# Altium schematic symbol library jlcpcb_2025_04_ferrites_extended_1206.schlib: 308 symbols (part 2 of 6)
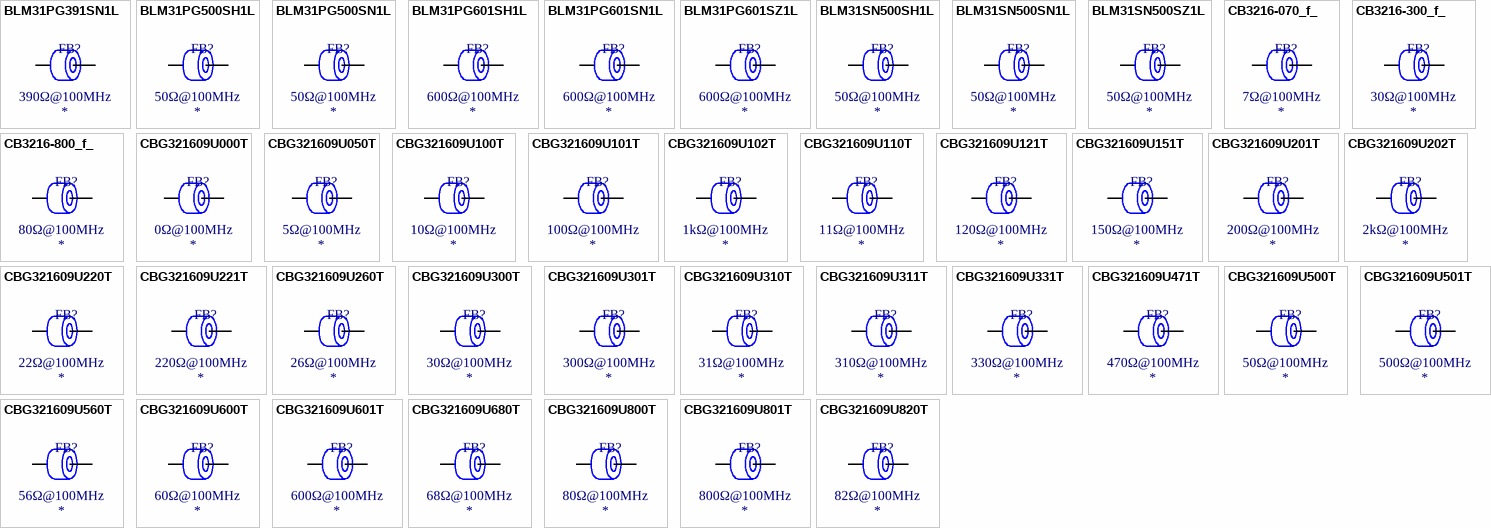
[diagram p8: symbols BLM31PG391SN1L to CBG321609U820T]

## CBG321609U102T
designator FB?  Impedance @ Frequency: 1kΩ@100MHz
Ferrite, 1kΩ@100MHz, ±25%, 350mΩ, 400mA, SMD 1206; Manufacturer: FH(Guangdong Fenghua Advanced Tech); Manufacturer Part Number: CBG321609U102T; Package Size: 1206; JLCPCB Basic Part: No; JLCPCB Part Number: C361667; Supplier 1: LCSC; Category: Ferrite Beads; Supplier Part Number 1: C361667; Tolerance: ±25%; Rated Current: 400mA; DC Resistance: 350mΩ; RoHS: Yes; ComponentLink1Description: Datasheet; ComponentLink1URL: https://wmsc.lcsc.com/wmsc/upload/file/pdf/v2/lcsc/1912111437_FH--Guangdong-Fenghua-Advanced-Tech-CBG321609U102T_C361667.pdf; ComponentLink2Description: JLCPCB Part URL; ComponentLink2URL: https://jlcpcb.com/partdetail/C361667; ComponentLink3Description: LCSC Part URL; ComponentLink3URL: https://lcsc.com/product-detail/Ferrite-Beads_FH-Guangdong-Fenghua-Advanced-Tech-FH-Guangdong-Fenghua-Advanced-Tech-CBG321609U102T_C361667.html
footprint FB-1206 (1206 (3216M) Ferrite)
pins: 1, 2

## CBG321609U110T
designator FB?  Impedance @ Frequency: 11Ω@100MHz
Ferrite, 11Ω@100MHz, 100mΩ, 1A, SMD 1206; Manufacturer: FH(Guangdong Fenghua Advanced Tech); Manufacturer Part Number: CBG321609U110T; Package Size: 1206; JLCPCB Basic Part: No; JLCPCB Part Number: C89361; Supplier 1: LCSC; Category: Ferrite Beads; Supplier Part Number 1: C89361; Rated Current: 1A; DC Resistance: 100mΩ; RoHS: Yes; ComponentLink1Description: Datasheet; ComponentLink1URL: https://wmsc.lcsc.com/wmsc/upload/file/pdf/v2/lcsc/2304140030_FH--Guangdong-Fenghua-Advanced-Tech-CBG321609U110T_C89361.pdf; ComponentLink2Description: JLCPCB Part URL; ComponentLink2URL: https://jlcpcb.com/partdetail/C89361; ComponentLink3Description: LCSC Part URL; ComponentLink3URL: https://lcsc.com/product-detail/Ferrite-Beads_FH-Guangdong-Fenghua-Advanced-Tech-FH-Guangdong-Fenghua-Advanced-Tech-CBG321609U110T_C89361.html
pins: 1, 2

## CBG321609U121T
designator FB?  Impedance @ Frequency: 120Ω@100MHz
Ferrite, 120Ω@100MHz, ±25%, 150mΩ, 1A, SMD 1206; Manufacturer: FH(Guangdong Fenghua Advanced Tech); Manufacturer Part Number: CBG321609U121T; Package Size: 1206; JLCPCB Basic Part: No; JLCPCB Part Number: C39279; Supplier 1: LCSC; Category: Ferrite Beads; Supplier Part Number 1: C39279; Tolerance: ±25%; Rated Current: 1A; DC Resistance: 150mΩ; RoHS: Yes; ComponentLink1Description: Datasheet; ComponentLink1URL: https://wmsc.lcsc.com/wmsc/upload/file/pdf/v2/lcsc/2304140030_FH--Guangdong-Fenghua-Advanced-Tech-CBG321609U121T_C39279.pdf; ComponentLink2Description: JLCPCB Part URL; ComponentLink2URL: https://jlcpcb.com/partdetail/C39279; ComponentLink3Description: LCSC Part URL; ComponentLink3URL: https://lcsc.com/product-detail/Ferrite-Beads_FH-Guangdong-Fenghua-Advanced-Tech-FH-Guangdong-Fenghua-Advanced-Tech-CBG321609U121T_C39279.html
footprint FB-1206 (1206 (3216M) Ferrite)
pins: 1, 2

## CBG321609U151T
designator FB?  Impedance @ Frequency: 150Ω@100MHz
Ferrite, 150Ω@100MHz, ±25%, 200mΩ, 800mA, SMD 1206; Manufacturer: FH(Guangdong Fenghua Advanced Tech); Manufacturer Part Number: CBG321609U151T; Package Size: 1206; JLCPCB Basic Part: No; JLCPCB Part Number: C74484; Supplier 1: LCSC; Category: Ferrite Beads; Supplier Part Number 1: C74484; Tolerance: ±25%; Rated Current: 800mA; DC Resistance: 200mΩ; RoHS: Yes; ComponentLink1Description: Datasheet; ComponentLink1URL: https://wmsc.lcsc.com/wmsc/upload/file/pdf/v2/lcsc/2304140030_FH--Guangdong-Fenghua-Advanced-Tech-CBG321609U151T_C74484.pdf; ComponentLink2Description: JLCPCB Part URL; ComponentLink2URL: https://jlcpcb.com/partdetail/C74484; ComponentLink3Description: LCSC Part URL; ComponentLink3URL: https://lcsc.com/product-detail/Ferrite-Beads_FH-Guangdong-Fenghua-Advanced-Tech-FH-Guangdong-Fenghua-Advanced-Tech-CBG321609U151T_C74484.html
footprint FB-1206 (1206 (3216M) Ferrite)
pins: 1, 2

## CBG321609U201T
designator FB?  Impedance @ Frequency: 200Ω@100MHz
Ferrite, 200Ω@100MHz, ±25%, SMD 1206; Manufacturer: FH(Guangdong Fenghua Advanced Tech); Manufacturer Part Number: CBG321609U201T; Package Size: 1206; JLCPCB Basic Part: No; JLCPCB Part Number: C139152; Supplier 1: LCSC; Category: Ferrite Beads; Supplier Part Number 1: C139152; Tolerance: ±25%; RoHS: Yes; ComponentLink1Description: Datasheet; ComponentLink1URL: https://wmsc.lcsc.com/wmsc/upload/file/pdf/v2/lcsc/2304140030_FH--Guangdong-Fenghua-Advanced-Tech-CBG321609U201T_C139152.pdf; ComponentLink2Description: JLCPCB Part URL; ComponentLink2URL: https://jlcpcb.com/partdetail/C139152; ComponentLink3Description: LCSC Part URL; ComponentLink3URL: https://lcsc.com/product-detail/Ferrite-Beads_FH-Guangdong-Fenghua-Advanced-Tech-FH-Guangdong-Fenghua-Advanced-Tech-CBG321609U201T_C139152.html
pins: 1, 2

## CBG321609U202T
designator FB?  Impedance @ Frequency: 2kΩ@100MHz
Ferrite, 2kΩ@100MHz, ±25%, 1Ω, 50mA, SMD 1206; Manufacturer: FH(Guangdong Fenghua Advanced Tech); Manufacturer Part Number: CBG321609U202T; Package Size: 1206; JLCPCB Basic Part: No; JLCPCB Part Number: C316453; Supplier 1: LCSC; Category: Ferrite Beads; Supplier Part Number 1: C316453; Tolerance: ±25%; Rated Current: 50mA; DC Resistance: 1Ω; RoHS: Yes; ComponentLink1Description: Datasheet; ComponentLink1URL: https://wmsc.lcsc.com/wmsc/upload/file/pdf/v2/lcsc/1811011940_FH--Guangdong-Fenghua-Advanced-Tech-CBG321609U202T_C316453.pdf; ComponentLink2Description: JLCPCB Part URL; ComponentLink2URL: https://jlcpcb.com/partdetail/C316453; ComponentLink3Description: LCSC Part URL; ComponentLink3URL: https://lcsc.com/product-detail/Ferrite-Beads_FH-Guangdong-Fenghua-Advanced-Tech-FH-Guangdong-Fenghua-Advanced-Tech-CBG321609U202T_C316453.html
footprint FB-1206 (1206 (3216M) Ferrite)
pins: 1, 2

## CBG321609U220T
designator FB?  Impedance @ Frequency: 22Ω@100MHz
Ferrite, 22Ω@100MHz, ±25%, SMD 1206; Manufacturer: FH(Guangdong Fenghua Advanced Tech); Manufacturer Part Number: CBG321609U220T; Package Size: 1206; JLCPCB Basic Part: No; JLCPCB Part Number: C74483; Supplier 1: LCSC; Category: Ferrite Beads; Supplier Part Number 1: C74483; Tolerance: ±25%; RoHS: Yes; ComponentLink1Description: Datasheet; ComponentLink1URL: https://wmsc.lcsc.com/wmsc/upload/file/pdf/v2/lcsc/2304140030_FH--Guangdong-Fenghua-Advanced-Tech-CBG321609U220T_C74483.pdf; ComponentLink2Description: JLCPCB Part URL; ComponentLink2URL: https://jlcpcb.com/partdetail/C74483; ComponentLink3Description: LCSC Part URL; ComponentLink3URL: https://lcsc.com/product-detail/Ferrite-Beads_FH-Guangdong-Fenghua-Advanced-Tech-FH-Guangdong-Fenghua-Advanced-Tech-CBG321609U220T_C74483.html
pins: 1, 2

## CBG321609U221T
designator FB?  Impedance @ Frequency: 220Ω@100MHz
Ferrite, 220Ω@100MHz, ±25%, 200mΩ, 800mA, SMD 1206; Manufacturer: FH(Guangdong Fenghua Advanced Tech); Manufacturer Part Number: CBG321609U221T; Package Size: 1206; JLCPCB Basic Part: No; JLCPCB Part Number: C124098; Supplier 1: LCSC; Category: Ferrite Beads; Supplier Part Number 1: C124098; Tolerance: ±25%; Rated Current: 800mA; DC Resistance: 200mΩ; RoHS: Yes; ComponentLink1Description: Datasheet; ComponentLink1URL: https://wmsc.lcsc.com/wmsc/upload/file/pdf/v2/lcsc/2304140030_FH--Guangdong-Fenghua-Advanced-Tech-CBG321609U221T_C124098.pdf; ComponentLink2Description: JLCPCB Part URL; ComponentLink2URL: https://jlcpcb.com/partdetail/C124098; ComponentLink3Description: LCSC Part URL; ComponentLink3URL: https://lcsc.com/product-detail/Ferrite-Beads_FH-Guangdong-Fenghua-Advanced-Tech-FH-Guangdong-Fenghua-Advanced-Tech-CBG321609U221T_C124098.html
footprint FB-1206 (1206 (3216M) Ferrite)
pins: 1, 2

## CBG321609U260T
designator FB?  Impedance @ Frequency: 26Ω@100MHz
Ferrite, 26Ω@100MHz, ±25%, 100mΩ, 1A, SMD 1206; Manufacturer: FH(Guangdong Fenghua Advanced Tech); Manufacturer Part Number: CBG321609U260T; Package Size: 1206; JLCPCB Basic Part: No; JLCPCB Part Number: C668240; Supplier 1: LCSC; Category: Ferrite Beads; Supplier Part Number 1: C668240; Tolerance: ±25%; Rated Current: 1A; DC Resistance: 100mΩ; RoHS: Yes; ComponentLink1Description: Datasheet; ComponentLink1URL: https://wmsc.lcsc.com/wmsc/upload/file/pdf/v2/lcsc/2304140030_FH--Guangdong-Fenghua-Advanced-Tech-CBG321609U260T_C668240.pdf; ComponentLink2Description: JLCPCB Part URL; ComponentLink2URL: https://jlcpcb.com/partdetail/C668240; ComponentLink3Description: LCSC Part URL; ComponentLink3URL: https://lcsc.com/product-detail/Ferrite-Beads_FH-Guangdong-Fenghua-Advanced-Tech-FH-Guangdong-Fenghua-Advanced-Tech-CBG321609U260T_C668240.html
footprint FB-1206 (1206 (3216M) Ferrite)
pins: 1, 2

## CBG321609U300T
designator FB?  Impedance @ Frequency: 30Ω@100MHz
Ferrite, 30Ω@100MHz, ±25%, SMD 1206; Manufacturer: FH(Guangdong Fenghua Advanced Tech); Manufacturer Part Number: CBG321609U300T; Package Size: 1206; JLCPCB Basic Part: No; JLCPCB Part Number: C139153; Supplier 1: LCSC; Category: Ferrite Beads; Supplier Part Number 1: C139153; Tolerance: ±25%; RoHS: Yes; ComponentLink1Description: Datasheet; ComponentLink1URL: https://wmsc.lcsc.com/wmsc/upload/file/pdf/v2/lcsc/2304140030_FH--Guangdong-Fenghua-Advanced-Tech-CBG321609U300T_C139153.pdf; ComponentLink2Description: JLCPCB Part URL; ComponentLink2URL: https://jlcpcb.com/partdetail/C139153; ComponentLink3Description: LCSC Part URL; ComponentLink3URL: https://lcsc.com/product-detail/Ferrite-Beads_FH-Guangdong-Fenghua-Advanced-Tech-FH-Guangdong-Fenghua-Advanced-Tech-CBG321609U300T_C139153.html
pins: 1, 2

## CBG321609U301T
designator FB?  Impedance @ Frequency: 300Ω@100MHz
Ferrite, 300Ω@100MHz, ±25%, 200mΩ, 800mA, SMD 1206; Manufacturer: FH(Guangdong Fenghua Advanced Tech); Manufacturer Part Number: CBG321609U301T; Package Size: 1206; JLCPCB Basic Part: No; JLCPCB Part Number: C139154; Supplier 1: LCSC; Category: Ferrite Beads; Supplier Part Number 1: C139154; Tolerance: ±25%; Rated Current: 800mA; DC Resistance: 200mΩ; RoHS: Yes; ComponentLink1Description: Datasheet; ComponentLink1URL: https://wmsc.lcsc.com/wmsc/upload/file/pdf/v2/lcsc/2304140030_FH--Guangdong-Fenghua-Advanced-Tech-CBG321609U301T_C139154.pdf; ComponentLink2Description: JLCPCB Part URL; ComponentLink2URL: https://jlcpcb.com/partdetail/C139154; ComponentLink3Description: LCSC Part URL; ComponentLink3URL: https://lcsc.com/product-detail/Ferrite-Beads_FH-Guangdong-Fenghua-Advanced-Tech-FH-Guangdong-Fenghua-Advanced-Tech-CBG321609U301T_C139154.html
footprint FB-1206 (1206 (3216M) Ferrite)
pins: 1, 2

## CBG321609U310T
designator FB?  Impedance @ Frequency: 31Ω@100MHz
Ferrite, 31Ω@100MHz, ±25%, 100mΩ, 1A, SMD 1206; Manufacturer: FH(Guangdong Fenghua Advanced Tech); Manufacturer Part Number: CBG321609U310T; Package Size: 1206; JLCPCB Basic Part: No; JLCPCB Part Number: C401498; Supplier 1: LCSC; Category: Ferrite Beads; Supplier Part Number 1: C401498; Tolerance: ±25%; Rated Current: 1A; DC Resistance: 100mΩ; RoHS: Yes; ComponentLink1Description: Datasheet; ComponentLink1URL: https://wmsc.lcsc.com/wmsc/upload/file/pdf/v2/lcsc/1912111437_FH--Guangdong-Fenghua-Advanced-Tech-CBG321609U310T_C401498.pdf; ComponentLink2Description: JLCPCB Part URL; ComponentLink2URL: https://jlcpcb.com/partdetail/C401498; ComponentLink3Description: LCSC Part URL; ComponentLink3URL: https://lcsc.com/product-detail/Ferrite-Beads_FH-Guangdong-Fenghua-Advanced-Tech-FH-Guangdong-Fenghua-Advanced-Tech-CBG321609U310T_C401498.html
footprint FB-1206 (1206 (3216M) Ferrite)
pins: 1, 2

## CBG321609U311T
designator FB?  Impedance @ Frequency: 310Ω@100MHz
Ferrite, 310Ω@100MHz, ±25%, SMD 1206; Manufacturer: FH(Guangdong Fenghua Advanced Tech); Manufacturer Part Number: CBG321609U311T; Package Size: 1206; JLCPCB Basic Part: No; JLCPCB Part Number: C139155; Supplier 1: LCSC; Category: Ferrite Beads; Supplier Part Number 1: C139155; Tolerance: ±25%; RoHS: Yes; ComponentLink1Description: Datasheet; ComponentLink1URL: https://wmsc.lcsc.com/wmsc/upload/file/pdf/v2/lcsc/2304140030_FH--Guangdong-Fenghua-Advanced-Tech-CBG321609U311T_C139155.pdf; ComponentLink2Description: JLCPCB Part URL; ComponentLink2URL: https://jlcpcb.com/partdetail/C139155; ComponentLink3Description: LCSC Part URL; ComponentLink3URL: https://lcsc.com/product-detail/Ferrite-Beads_FH-Guangdong-Fenghua-Advanced-Tech-FH-Guangdong-Fenghua-Advanced-Tech-CBG321609U311T_C139155.html
pins: 1, 2

## CBG321609U331T
designator FB?  Impedance @ Frequency: 330Ω@100MHz
Ferrite, 330Ω@100MHz, SMD 1206; Manufacturer: FH(Guangdong Fenghua Advanced Tech); Manufacturer Part Number: CBG321609U331T; Package Size: 1206; JLCPCB Basic Part: No; JLCPCB Part Number: C401497; Supplier 1: LCSC; Category: Ferrite Beads; Supplier Part Number 1: C401497; RoHS: Yes; ComponentLink1Description: Datasheet; ComponentLink2Description: JLCPCB Part URL; ComponentLink2URL: https://jlcpcb.com/partdetail/C401497; ComponentLink3Description: LCSC Part URL; ComponentLink3URL: https://lcsc.com/product-detail/Ferrite-Beads_FH-Guangdong-Fenghua-Advanced-Tech-FH-Guangdong-Fenghua-Advanced-Tech-CBG321609U331T_C401497.html
pins: 1, 2

## CBG321609U471T
designator FB?  Impedance @ Frequency: 470Ω@100MHz
Ferrite, 470Ω@100MHz, ±25%, SMD 1206; Manufacturer: FH(Guangdong Fenghua Advanced Tech); Manufacturer Part Number: CBG321609U471T; Package Size: 1206; JLCPCB Basic Part: No; JLCPCB Part Number: C160116; Supplier 1: LCSC; Category: Ferrite Beads; Supplier Part Number 1: C160116; Tolerance: ±25%; RoHS: Yes; ComponentLink1Description: Datasheet; ComponentLink1URL: https://wmsc.lcsc.com/wmsc/upload/file/pdf/v2/lcsc/2304140030_FH--Guangdong-Fenghua-Advanced-Tech-CBG321609U471T_C160116.pdf; ComponentLink2Description: JLCPCB Part URL; ComponentLink2URL: https://jlcpcb.com/partdetail/C160116; ComponentLink3Description: LCSC Part URL; ComponentLink3URL: https://lcsc.com/product-detail/Ferrite-Beads_FH-Guangdong-Fenghua-Advanced-Tech-FH-Guangdong-Fenghua-Advanced-Tech-CBG321609U471T_C160116.html
pins: 1, 2

## CBG321609U500T
designator FB?  Impedance @ Frequency: 50Ω@100MHz
Ferrite, 50Ω@100MHz, SMD 1206; Manufacturer: FH(Guangdong Fenghua Advanced Tech); Manufacturer Part Number: CBG321609U500T; Package Size: 1206; JLCPCB Basic Part: No; JLCPCB Part Number: C401496; Supplier 1: LCSC; Category: Ferrite Beads; Supplier Part Number 1: C401496; RoHS: Yes; ComponentLink1Description: Datasheet; ComponentLink1URL: https://wmsc.lcsc.com/wmsc/upload/file/pdf/v2/lcsc/2209051700_FH--Guangdong-Fenghua-Advanced-Tech-CBG321609U500T_C401496.pdf; ComponentLink2Description: JLCPCB Part URL; ComponentLink2URL: https://jlcpcb.com/partdetail/C401496; ComponentLink3Description: LCSC Part URL; ComponentLink3URL: https://lcsc.com/product-detail/Ferrite-Beads_FH-Guangdong-Fenghua-Advanced-Tech-FH-Guangdong-Fenghua-Advanced-Tech-CBG321609U500T_C401496.html
pins: 1, 2

## CBG321609U501T
designator FB?  Impedance @ Frequency: 500Ω@100MHz
Ferrite, 500Ω@100MHz, ±25%, 300mΩ, 600mA, SMD 1206; Manufacturer: FH(Guangdong Fenghua Advanced Tech); Manufacturer Part Number: CBG321609U501T; Package Size: 1206; JLCPCB Basic Part: No; JLCPCB Part Number: C139156; Supplier 1: LCSC; Category: Ferrite Beads; Supplier Part Number 1: C139156; Tolerance: ±25%; Rated Current: 600mA; DC Resistance: 300mΩ; RoHS: Yes; ComponentLink1Description: Datasheet; ComponentLink1URL: https://wmsc.lcsc.com/wmsc/upload/file/pdf/v2/lcsc/2304140030_FH--Guangdong-Fenghua-Advanced-Tech-CBG321609U501T_C139156.pdf; ComponentLink2Description: JLCPCB Part URL; ComponentLink2URL: https://jlcpcb.com/partdetail/C139156; ComponentLink3Description: LCSC Part URL; ComponentLink3URL: https://lcsc.com/product-detail/Ferrite-Beads_FH-Guangdong-Fenghua-Advanced-Tech-FH-Guangdong-Fenghua-Advanced-Tech-CBG321609U501T_C139156.html
footprint FB-1206 (1206 (3216M) Ferrite)
pins: 1, 2

## CBG321609U560T
designator FB?  Impedance @ Frequency: 56Ω@100MHz
Ferrite, 56Ω@100MHz, ±25%, SMD 1206; Manufacturer: FH(Guangdong Fenghua Advanced Tech); Manufacturer Part Number: CBG321609U560T; Package Size: 1206; JLCPCB Basic Part: No; JLCPCB Part Number: C1019; Supplier 1: LCSC; Category: Ferrite Beads; Supplier Part Number 1: C1019; Tolerance: ±25%; RoHS: Yes; ComponentLink1Description: Datasheet; ComponentLink1URL: https://wmsc.lcsc.com/wmsc/upload/file/pdf/v2/lcsc/1810311312_FH--Guangdong-Fenghua-Advanced-Tech-CBG321609U560T_C1019.pdf; ComponentLink2Description: JLCPCB Part URL; ComponentLink2URL: https://jlcpcb.com/partdetail/C1019; ComponentLink3Description: LCSC Part URL; ComponentLink3URL: https://lcsc.com/product-detail/Ferrite-Beads_FH-Guangdong-Fenghua-Advanced-Tech-FH-Guangdong-Fenghua-Advanced-Tech-CBG321609U560T_C1019.html
pins: 1, 2

## CBG321609U600T
designator FB?  Impedance @ Frequency: 60Ω@100MHz
Ferrite, 60Ω@100MHz, ±25%, 150mΩ, 1A, SMD 1206; Manufacturer: FH(Guangdong Fenghua Advanced Tech); Manufacturer Part Number: CBG321609U600T; Package Size: 1206; JLCPCB Basic Part: No; JLCPCB Part Number: C1020; Supplier 1: LCSC; Category: Ferrite Beads; Supplier Part Number 1: C1020; Tolerance: ±25%; Rated Current: 1A; DC Resistance: 150mΩ; RoHS: Yes; ComponentLink1Description: Datasheet; ComponentLink1URL: https://wmsc.lcsc.com/wmsc/upload/file/pdf/v2/lcsc/1810311412_FH--Guangdong-Fenghua-Advanced-Tech-CBG321609U600T_C1020.pdf; ComponentLink2Description: JLCPCB Part URL; ComponentLink2URL: https://jlcpcb.com/partdetail/C1020; ComponentLink3Description: LCSC Part URL; ComponentLink3URL: https://lcsc.com/product-detail/Ferrite-Beads_FH-Guangdong-Fenghua-Advanced-Tech-FH-Guangdong-Fenghua-Advanced-Tech-CBG321609U600T_C1020.html
footprint FB-1206 (1206 (3216M) Ferrite)
pins: 1, 2

## CBG321609U601T
designator FB?  Impedance @ Frequency: 600Ω@100MHz
Ferrite, 600Ω@100MHz, ±25%, 300mΩ, 600mA, SMD 1206; Manufacturer: FH(Guangdong Fenghua Advanced Tech); Manufacturer Part Number: CBG321609U601T; Package Size: 1206; JLCPCB Basic Part: No; JLCPCB Part Number: C74486; Supplier 1: LCSC; Category: Ferrite Beads; Supplier Part Number 1: C74486; Tolerance: ±25%; Rated Current: 600mA; DC Resistance: 300mΩ; RoHS: Yes; ComponentLink1Description: Datasheet; ComponentLink1URL: https://wmsc.lcsc.com/wmsc/upload/file/pdf/v2/lcsc/2304140030_FH--Guangdong-Fenghua-Advanced-Tech-CBG321609U601T_C74486.pdf; ComponentLink2Description: JLCPCB Part URL; ComponentLink2URL: https://jlcpcb.com/partdetail/C74486; ComponentLink3Description: LCSC Part URL; ComponentLink3URL: https://lcsc.com/product-detail/Ferrite-Beads_FH-Guangdong-Fenghua-Advanced-Tech-FH-Guangdong-Fenghua-Advanced-Tech-CBG321609U601T_C74486.html
footprint FB-1206 (1206 (3216M) Ferrite)
pins: 1, 2

## CBG321609U680T
designator FB?  Impedance @ Frequency: 68Ω@100MHz
Ferrite, 68Ω@100MHz, ±25%, SMD 1206; Manufacturer: FH(Guangdong Fenghua Advanced Tech); Manufacturer Part Number: CBG321609U680T; Package Size: 1206; JLCPCB Basic Part: No; JLCPCB Part Number: C1021; Supplier 1: LCSC; Category: Ferrite Beads; Supplier Part Number 1: C1021; Tolerance: ±25%; RoHS: Yes; ComponentLink1Description: Datasheet; ComponentLink1URL: https://wmsc.lcsc.com/wmsc/upload/file/pdf/v2/lcsc/1810270915_FH--Guangdong-Fenghua-Advanced-Tech-CBG321609U680T_C1021.pdf; ComponentLink2Description: JLCPCB Part URL; ComponentLink2URL: https://jlcpcb.com/partdetail/C1021; ComponentLink3Description: LCSC Part URL; ComponentLink3URL: https://lcsc.com/product-detail/Ferrite-Beads_FH-Guangdong-Fenghua-Advanced-Tech-FH-Guangdong-Fenghua-Advanced-Tech-CBG321609U680T_C1021.html
pins: 1, 2

## CBG321609U800T
designator FB?  Impedance @ Frequency: 80Ω@100MHz
Ferrite, 80Ω@100MHz, ±25%, 150mΩ, 1A, SMD 1206; Manufacturer: FH(Guangdong Fenghua Advanced Tech); Manufacturer Part Number: CBG321609U800T; Package Size: 1206; JLCPCB Basic Part: No; JLCPCB Part Number: C159736; Supplier 1: LCSC; Category: Ferrite Beads; Supplier Part Number 1: C159736; Tolerance: ±25%; Rated Current: 1A; DC Resistance: 150mΩ; RoHS: Yes; ComponentLink1Description: Datasheet; ComponentLink1URL: https://wmsc.lcsc.com/wmsc/upload/file/pdf/v2/lcsc/2304140030_FH--Guangdong-Fenghua-Advanced-Tech-CBG321609U800T_C159736.pdf; ComponentLink2Description: JLCPCB Part URL; ComponentLink2URL: https://jlcpcb.com/partdetail/C159736; ComponentLink3Description: LCSC Part URL; ComponentLink3URL: https://lcsc.com/product-detail/Ferrite-Beads_FH-Guangdong-Fenghua-Advanced-Tech-FH-Guangdong-Fenghua-Advanced-Tech-CBG321609U800T_C159736.html
footprint FB-1206 (1206 (3216M) Ferrite)
pins: 1, 2

## CBG321609U801T
designator FB?  Impedance @ Frequency: 800Ω@100MHz
Ferrite, 800Ω@100MHz, ±25%, 350mΩ, 400mA, SMD 1206; Manufacturer: FH(Guangdong Fenghua Advanced Tech); Manufacturer Part Number: CBG321609U801T; Package Size: 1206; JLCPCB Basic Part: No; JLCPCB Part Number: C401495; Supplier 1: LCSC; Category: Ferrite Beads; Supplier Part Number 1: C401495; Tolerance: ±25%; Rated Current: 400mA; DC Resistance: 350mΩ; RoHS: Yes; ComponentLink1Description: Datasheet; ComponentLink1URL: https://wmsc.lcsc.com/wmsc/upload/file/pdf/v2/lcsc/1912111437_FH--Guangdong-Fenghua-Advanced-Tech-CBG321609U801T_C401495.pdf; ComponentLink2Description: JLCPCB Part URL; ComponentLink2URL: https://jlcpcb.com/partdetail/C401495; ComponentLink3Description: LCSC Part URL; ComponentLink3URL: https://lcsc.com/product-detail/Ferrite-Beads_FH-Guangdong-Fenghua-Advanced-Tech-FH-Guangdong-Fenghua-Advanced-Tech-CBG321609U801T_C401495.html
footprint FB-1206 (1206 (3216M) Ferrite)
pins: 1, 2

## CBG321609U820T
designator FB?  Impedance @ Frequency: 82Ω@100MHz
Ferrite, 82Ω@100MHz, ±25%, SMD 1206; Manufacturer: FH(Guangdong Fenghua Advanced Tech); Manufacturer Part Number: CBG321609U820T; Package Size: 1206; JLCPCB Basic Part: No; JLCPCB Part Number: C1022; Supplier 1: LCSC; Category: Ferrite Beads; Supplier Part Number 1: C1022; Tolerance: ±25%; RoHS: Yes; ComponentLink1Description: Datasheet; ComponentLink1URL: https://wmsc.lcsc.com/wmsc/upload/file/pdf/v2/lcsc/1810311413_FH--Guangdong-Fenghua-Advanced-Tech-CBG321609U820T_C1022.pdf; ComponentLink2Description: JLCPCB Part URL; ComponentLink2URL: https://jlcpcb.com/partdetail/C1022; ComponentLink3Description: LCSC Part URL; ComponentLink3URL: https://lcsc.com/product-detail/Ferrite-Beads_FH-Guangdong-Fenghua-Advanced-Tech-FH-Guangdong-Fenghua-Advanced-Tech-CBG321609U820T_C1022.html
pins: 1, 2

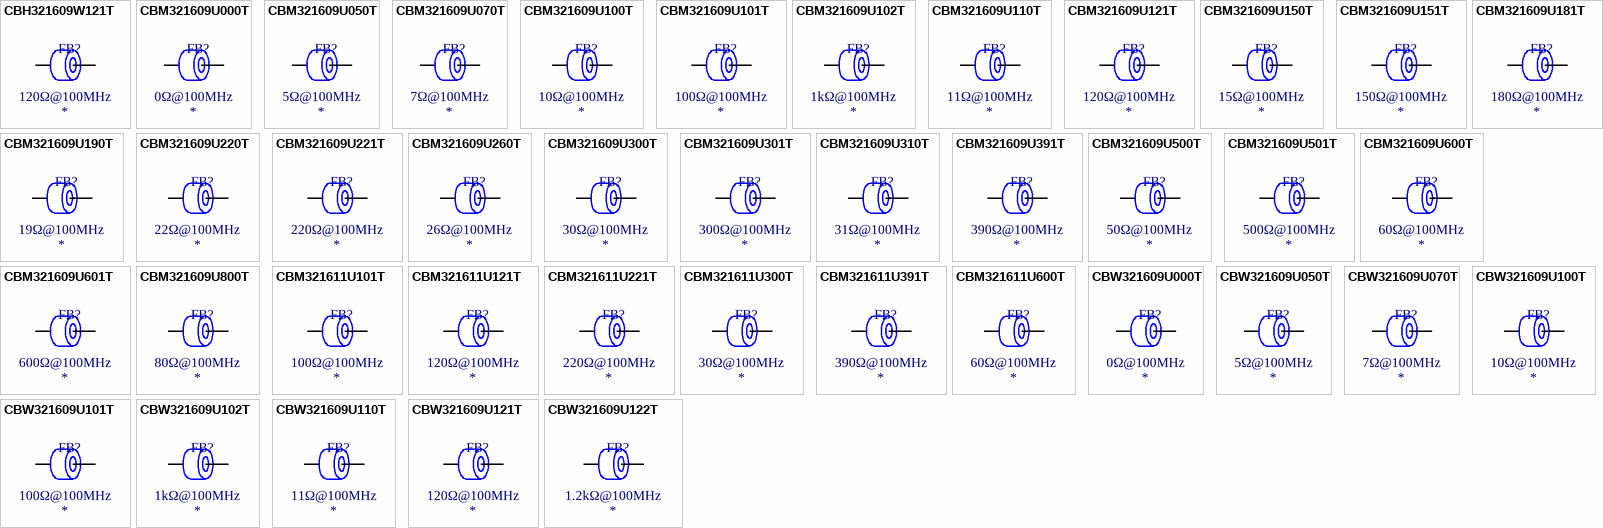
[diagram p2: symbols CBH321609W121T to CBW321609U122T]

## CBH321609W121T
designator FB?  Impedance @ Frequency: 120Ω@100MHz
Ferrite, 120Ω@100MHz, ±25%, 150mΩ, 1A, SMD 1206; Manufacturer: FH(Guangdong Fenghua Advanced Tech); Manufacturer Part Number: CBH321609W121T; Package Size: 1206; JLCPCB Basic Part: No; JLCPCB Part Number: C139163; Supplier 1: LCSC; Category: Ferrite Beads; Supplier Part Number 1: C139163; Tolerance: ±25%; Rated Current: 1A; DC Resistance: 150mΩ; RoHS: Yes; ComponentLink1Description: Datasheet; ComponentLink1URL: https://wmsc.lcsc.com/wmsc/upload/file/pdf/v2/lcsc/2304140030_FH--Guangdong-Fenghua-Advanced-Tech-CBH321609W121T_C139163.pdf; ComponentLink2Description: JLCPCB Part URL; ComponentLink2URL: https://jlcpcb.com/partdetail/C139163; ComponentLink3Description: LCSC Part URL; ComponentLink3URL: https://lcsc.com/product-detail/Ferrite-Beads_FH-Guangdong-Fenghua-Advanced-Tech-FH-Guangdong-Fenghua-Advanced-Tech-CBH321609W121T_C139163.html
footprint FB-1206 (1206 (3216M) Ferrite)
pins: 1, 2

## CBM321609U000T
designator FB?  Impedance @ Frequency: 0Ω@100MHz
Ferrite, 0Ω@100MHz, 10mΩ, 6A, SMD 1206; Manufacturer: FH(Guangdong Fenghua Advanced Tech); Manufacturer Part Number: CBM321609U000T; Package Size: 1206; JLCPCB Basic Part: No; JLCPCB Part Number: C391206; Supplier 1: LCSC; Category: Ferrite Beads; Supplier Part Number 1: C391206; Rated Current: 6A; DC Resistance: 10mΩ; RoHS: Yes; ComponentLink1Description: Datasheet; ComponentLink1URL: https://wmsc.lcsc.com/wmsc/upload/file/pdf/v2/lcsc/2304140030_FH--Guangdong-Fenghua-Advanced-Tech-CBM321609U000T_C391206.pdf; ComponentLink2Description: JLCPCB Part URL; ComponentLink2URL: https://jlcpcb.com/partdetail/C391206; ComponentLink3Description: LCSC Part URL; ComponentLink3URL: https://lcsc.com/product-detail/Ferrite-Beads_FH-Guangdong-Fenghua-Advanced-Tech-FH-Guangdong-Fenghua-Advanced-Tech-CBM321609U000T_C391206.html
pins: 1, 2

## CBM321609U050T
designator FB?  Impedance @ Frequency: 5Ω@100MHz
Ferrite, 5Ω@100MHz, 10mΩ, 6A, SMD 1206; Manufacturer: FH(Guangdong Fenghua Advanced Tech); Manufacturer Part Number: CBM321609U050T; Package Size: 1206; JLCPCB Basic Part: No; JLCPCB Part Number: C391205; Supplier 1: LCSC; Category: Ferrite Beads; Supplier Part Number 1: C391205; Rated Current: 6A; DC Resistance: 10mΩ; RoHS: Yes; ComponentLink1Description: Datasheet; ComponentLink1URL: https://wmsc.lcsc.com/wmsc/upload/file/pdf/v2/lcsc/2304140030_FH--Guangdong-Fenghua-Advanced-Tech-CBM321609U050T_C391205.pdf; ComponentLink2Description: JLCPCB Part URL; ComponentLink2URL: https://jlcpcb.com/partdetail/C391205; ComponentLink3Description: LCSC Part URL; ComponentLink3URL: https://lcsc.com/product-detail/Ferrite-Beads_FH-Guangdong-Fenghua-Advanced-Tech-FH-Guangdong-Fenghua-Advanced-Tech-CBM321609U050T_C391205.html
pins: 1, 2

## CBM321609U070T
designator FB?  Impedance @ Frequency: 7Ω@100MHz
Ferrite, 7Ω@100MHz, 10mΩ, 6A, SMD 1206; Manufacturer: FH(Guangdong Fenghua Advanced Tech); Manufacturer Part Number: CBM321609U070T; Package Size: 1206; JLCPCB Basic Part: No; JLCPCB Part Number: C391204; Supplier 1: LCSC; Category: Ferrite Beads; Supplier Part Number 1: C391204; Rated Current: 6A; DC Resistance: 10mΩ; RoHS: Yes; ComponentLink1Description: Datasheet; ComponentLink1URL: https://wmsc.lcsc.com/wmsc/upload/file/pdf/v2/lcsc/1912111437_FH--Guangdong-Fenghua-Advanced-Tech-CBM321609U070T_C391204.pdf; ComponentLink2Description: JLCPCB Part URL; ComponentLink2URL: https://jlcpcb.com/partdetail/C391204; ComponentLink3Description: LCSC Part URL; ComponentLink3URL: https://lcsc.com/product-detail/Ferrite-Beads_FH-Guangdong-Fenghua-Advanced-Tech-FH-Guangdong-Fenghua-Advanced-Tech-CBM321609U070T_C391204.html
pins: 1, 2

## CBM321609U100T
designator FB?  Impedance @ Frequency: 10Ω@100MHz
Ferrite, 10Ω@100MHz, ±25%, SMD 1206; Manufacturer: FH(Guangdong Fenghua Advanced Tech); Manufacturer Part Number: CBM321609U100T; Package Size: 1206; JLCPCB Basic Part: No; JLCPCB Part Number: C394442; Supplier 1: LCSC; Category: Ferrite Beads; Supplier Part Number 1: C394442; Tolerance: ±25%; RoHS: Yes; ComponentLink1Description: Datasheet; ComponentLink1URL: https://wmsc.lcsc.com/wmsc/upload/file/pdf/v2/lcsc/2304140030_FH--Guangdong-Fenghua-Advanced-Tech-CBM321609U100T_C394442.pdf; ComponentLink2Description: JLCPCB Part URL; ComponentLink2URL: https://jlcpcb.com/partdetail/C394442; ComponentLink3Description: LCSC Part URL; ComponentLink3URL: https://lcsc.com/product-detail/Ferrite-Beads_FH-Guangdong-Fenghua-Advanced-Tech-FH-Guangdong-Fenghua-Advanced-Tech-CBM321609U100T_C394442.html
pins: 1, 2

## CBM321609U101T
designator FB?  Impedance @ Frequency: 100Ω@100MHz
Ferrite, 100Ω@100MHz, ±25%, 35mΩ, 4A, SMD 1206; Manufacturer: FH(Guangdong Fenghua Advanced Tech); Manufacturer Part Number: CBM321609U101T; Package Size: 1206; JLCPCB Basic Part: No; JLCPCB Part Number: C394443; Supplier 1: LCSC; Category: Ferrite Beads; Supplier Part Number 1: C394443; Tolerance: ±25%; Rated Current: 4A; DC Resistance: 35mΩ; RoHS: Yes; ComponentLink1Description: Datasheet; ComponentLink1URL: https://wmsc.lcsc.com/wmsc/upload/file/pdf/v2/lcsc/2304140030_FH--Guangdong-Fenghua-Advanced-Tech-CBM321609U101T_C394443.pdf; ComponentLink2Description: JLCPCB Part URL; ComponentLink2URL: https://jlcpcb.com/partdetail/C394443; ComponentLink3Description: LCSC Part URL; ComponentLink3URL: https://lcsc.com/product-detail/Ferrite-Beads_FH-Guangdong-Fenghua-Advanced-Tech-FH-Guangdong-Fenghua-Advanced-Tech-CBM321609U101T_C394443.html
footprint FB-1206 (1206 (3216M) Ferrite)
pins: 1, 2

## CBM321609U102T
designator FB?  Impedance @ Frequency: 1kΩ@100MHz
Ferrite, 1kΩ@100MHz, ±25%, 120mΩ, 2A, SMD 1206; Manufacturer: FH(Guangdong Fenghua Advanced Tech); Manufacturer Part Number: CBM321609U102T; Package Size: 1206; JLCPCB Basic Part: No; JLCPCB Part Number: C139169; Supplier 1: LCSC; Category: Ferrite Beads; Supplier Part Number 1: C139169; Tolerance: ±25%; Rated Current: 2A; DC Resistance: 120mΩ; RoHS: Yes; ComponentLink1Description: Datasheet; ComponentLink1URL: https://wmsc.lcsc.com/wmsc/upload/file/pdf/v2/lcsc/2304140030_FH--Guangdong-Fenghua-Advanced-Tech-CBM321609U102T_C139169.pdf; ComponentLink2Description: JLCPCB Part URL; ComponentLink2URL: https://jlcpcb.com/partdetail/C139169; ComponentLink3Description: LCSC Part URL; ComponentLink3URL: https://lcsc.com/product-detail/Ferrite-Beads_FH-Guangdong-Fenghua-Advanced-Tech-FH-Guangdong-Fenghua-Advanced-Tech-CBM321609U102T_C139169.html
footprint FB-1206 (1206 (3216M) Ferrite)
pins: 1, 2

## CBM321609U110T
designator FB?  Impedance @ Frequency: 11Ω@100MHz
Ferrite, 11Ω@100MHz, 15mΩ, 6A, SMD 1206; Manufacturer: FH(Guangdong Fenghua Advanced Tech); Manufacturer Part Number: CBM321609U110T; Package Size: 1206; JLCPCB Basic Part: No; JLCPCB Part Number: C391202; Supplier 1: LCSC; Category: Ferrite Beads; Supplier Part Number 1: C391202; Rated Current: 6A; DC Resistance: 15mΩ; RoHS: Yes; ComponentLink1Description: Datasheet; ComponentLink1URL: https://wmsc.lcsc.com/wmsc/upload/file/pdf/v2/lcsc/2304140030_FH--Guangdong-Fenghua-Advanced-Tech-CBM321609U110T_C391202.pdf; ComponentLink2Description: JLCPCB Part URL; ComponentLink2URL: https://jlcpcb.com/partdetail/C391202; ComponentLink3Description: LCSC Part URL; ComponentLink3URL: https://lcsc.com/product-detail/Ferrite-Beads_FH-Guangdong-Fenghua-Advanced-Tech-FH-Guangdong-Fenghua-Advanced-Tech-CBM321609U110T_C391202.html
pins: 1, 2

## CBM321609U121T
designator FB?  Impedance @ Frequency: 120Ω@100MHz
Ferrite, 120Ω@100MHz, ±25%, 35mΩ, 4A, SMD 1206; Manufacturer: FH(Guangdong Fenghua Advanced Tech); Manufacturer Part Number: CBM321609U121T; Package Size: 1206; JLCPCB Basic Part: No; JLCPCB Part Number: C91124; Supplier 1: LCSC; Category: Ferrite Beads; Supplier Part Number 1: C91124; Tolerance: ±25%; Rated Current: 4A; DC Resistance: 35mΩ; RoHS: Yes; ComponentLink1Description: Datasheet; ComponentLink1URL: https://wmsc.lcsc.com/wmsc/upload/file/pdf/v2/lcsc/2304140030_FH--Guangdong-Fenghua-Advanced-Tech-CBM321609U121T_C91124.pdf; ComponentLink2Description: JLCPCB Part URL; ComponentLink2URL: https://jlcpcb.com/partdetail/C91124; ComponentLink3Description: LCSC Part URL; ComponentLink3URL: https://lcsc.com/product-detail/Ferrite-Beads_FH-Guangdong-Fenghua-Advanced-Tech-FH-Guangdong-Fenghua-Advanced-Tech-CBM321609U121T_C91124.html
footprint FB-1206 (1206 (3216M) Ferrite)
pins: 1, 2

## CBM321609U150T
designator FB?  Impedance @ Frequency: 15Ω@100MHz
Ferrite, 15Ω@100MHz, 15mΩ, 6A, SMD 1206; Manufacturer: FH(Guangdong Fenghua Advanced Tech); Manufacturer Part Number: CBM321609U150T; Package Size: 1206; JLCPCB Basic Part: No; JLCPCB Part Number: C391201; Supplier 1: LCSC; Category: Ferrite Beads; Supplier Part Number 1: C391201; Rated Current: 6A; DC Resistance: 15mΩ; RoHS: Yes; ComponentLink1Description: Datasheet; ComponentLink1URL: https://wmsc.lcsc.com/wmsc/upload/file/pdf/v2/lcsc/2304140030_FH--Guangdong-Fenghua-Advanced-Tech-CBM321609U150T_C391201.pdf; ComponentLink2Description: JLCPCB Part URL; ComponentLink2URL: https://jlcpcb.com/partdetail/C391201; ComponentLink3Description: LCSC Part URL; ComponentLink3URL: https://lcsc.com/product-detail/Ferrite-Beads_FH-Guangdong-Fenghua-Advanced-Tech-FH-Guangdong-Fenghua-Advanced-Tech-CBM321609U150T_C391201.html
pins: 1, 2

## CBM321609U151T
designator FB?  Impedance @ Frequency: 150Ω@100MHz
Ferrite, 150Ω@100MHz, ±25%, 45mΩ, 3A, SMD 1206; Manufacturer: FH(Guangdong Fenghua Advanced Tech); Manufacturer Part Number: CBM321609U151T; Package Size: 1206; JLCPCB Basic Part: No; JLCPCB Part Number: C391193; Supplier 1: LCSC; Category: Ferrite Beads; Supplier Part Number 1: C391193; Tolerance: ±25%; Rated Current: 3A; DC Resistance: 45mΩ; RoHS: Yes; ComponentLink1Description: Datasheet; ComponentLink1URL: https://wmsc.lcsc.com/wmsc/upload/file/pdf/v2/lcsc/2304140030_FH--Guangdong-Fenghua-Advanced-Tech-CBM321609U151T_C391193.pdf; ComponentLink2Description: JLCPCB Part URL; ComponentLink2URL: https://jlcpcb.com/partdetail/C391193; ComponentLink3Description: LCSC Part URL; ComponentLink3URL: https://lcsc.com/product-detail/Ferrite-Beads_FH-Guangdong-Fenghua-Advanced-Tech-FH-Guangdong-Fenghua-Advanced-Tech-CBM321609U151T_C391193.html
footprint FB-1206 (1206 (3216M) Ferrite)
pins: 1, 2

## CBM321609U181T
designator FB?  Impedance @ Frequency: 180Ω@100MHz
Ferrite, 180Ω@100MHz, ±25%, 55mΩ, 3A, SMD 1206; Manufacturer: FH(Guangdong Fenghua Advanced Tech); Manufacturer Part Number: CBM321609U181T; Package Size: 1206; JLCPCB Basic Part: No; JLCPCB Part Number: C391192; Supplier 1: LCSC; Category: Ferrite Beads; Supplier Part Number 1: C391192; Tolerance: ±25%; Rated Current: 3A; DC Resistance: 55mΩ; RoHS: Yes; ComponentLink1Description: Datasheet; ComponentLink1URL: https://wmsc.lcsc.com/wmsc/upload/file/pdf/v2/lcsc/2304140030_FH--Guangdong-Fenghua-Advanced-Tech-CBM321609U181T_C391192.pdf; ComponentLink2Description: JLCPCB Part URL; ComponentLink2URL: https://jlcpcb.com/partdetail/C391192; ComponentLink3Description: LCSC Part URL; ComponentLink3URL: https://lcsc.com/product-detail/Ferrite-Beads_FH-Guangdong-Fenghua-Advanced-Tech-FH-Guangdong-Fenghua-Advanced-Tech-CBM321609U181T_C391192.html
footprint FB-1206 (1206 (3216M) Ferrite)
pins: 1, 2

## CBM321609U190T
designator FB?  Impedance @ Frequency: 19Ω@100MHz
Ferrite, 19Ω@100MHz, 15mΩ, 6A, SMD 1206; Manufacturer: FH(Guangdong Fenghua Advanced Tech); Manufacturer Part Number: CBM321609U190T; Package Size: 1206; JLCPCB Basic Part: No; JLCPCB Part Number: C391200; Supplier 1: LCSC; Category: Ferrite Beads; Supplier Part Number 1: C391200; Rated Current: 6A; DC Resistance: 15mΩ; RoHS: Yes; ComponentLink1Description: Datasheet; ComponentLink1URL: https://wmsc.lcsc.com/wmsc/upload/file/pdf/v2/lcsc/2304140030_FH--Guangdong-Fenghua-Advanced-Tech-CBM321609U190T_C391200.pdf; ComponentLink2Description: JLCPCB Part URL; ComponentLink2URL: https://jlcpcb.com/partdetail/C391200; ComponentLink3Description: LCSC Part URL; ComponentLink3URL: https://lcsc.com/product-detail/Ferrite-Beads_FH-Guangdong-Fenghua-Advanced-Tech-FH-Guangdong-Fenghua-Advanced-Tech-CBM321609U190T_C391200.html
pins: 1, 2

## CBM321609U220T
designator FB?  Impedance @ Frequency: 22Ω@100MHz
Ferrite, 22Ω@100MHz, ±25%, SMD 1206; Manufacturer: FH(Guangdong Fenghua Advanced Tech); Manufacturer Part Number: CBM321609U220T; Package Size: 1206; JLCPCB Basic Part: No; JLCPCB Part Number: C394445; Supplier 1: LCSC; Category: Ferrite Beads; Supplier Part Number 1: C394445; Tolerance: ±25%; RoHS: Yes; ComponentLink1Description: Datasheet; ComponentLink1URL: https://wmsc.lcsc.com/wmsc/upload/file/pdf/v2/lcsc/2304140030_FH--Guangdong-Fenghua-Advanced-Tech-CBM321609U220T_C394445.pdf; ComponentLink2Description: JLCPCB Part URL; ComponentLink2URL: https://jlcpcb.com/partdetail/C394445; ComponentLink3Description: LCSC Part URL; ComponentLink3URL: https://lcsc.com/product-detail/Ferrite-Beads_FH-Guangdong-Fenghua-Advanced-Tech-FH-Guangdong-Fenghua-Advanced-Tech-CBM321609U220T_C394445.html
pins: 1, 2

## CBM321609U221T
designator FB?  Impedance @ Frequency: 220Ω@100MHz
Ferrite, 220Ω@100MHz, ±25%, 55mΩ, 3A, SMD 1206; Manufacturer: FH(Guangdong Fenghua Advanced Tech); Manufacturer Part Number: CBM321609U221T; Package Size: 1206; JLCPCB Basic Part: No; JLCPCB Part Number: C93627; Supplier 1: LCSC; Category: Ferrite Beads; Supplier Part Number 1: C93627; Tolerance: ±25%; Rated Current: 3A; DC Resistance: 55mΩ; RoHS: Yes; ComponentLink1Description: Datasheet; ComponentLink1URL: https://wmsc.lcsc.com/wmsc/upload/file/pdf/v2/lcsc/2304140030_FH--Guangdong-Fenghua-Advanced-Tech-CBM321609U221T_C93627.pdf; ComponentLink2Description: JLCPCB Part URL; ComponentLink2URL: https://jlcpcb.com/partdetail/C93627; ComponentLink3Description: LCSC Part URL; ComponentLink3URL: https://lcsc.com/product-detail/Ferrite-Beads_FH-Guangdong-Fenghua-Advanced-Tech-FH-Guangdong-Fenghua-Advanced-Tech-CBM321609U221T_C93627.html
footprint FB-1206 (1206 (3216M) Ferrite)
pins: 1, 2

## CBM321609U260T
designator FB?  Impedance @ Frequency: 26Ω@100MHz
Ferrite, 26Ω@100MHz, ±25%, 15mΩ, 6A, SMD 1206; Manufacturer: FH(Guangdong Fenghua Advanced Tech); Manufacturer Part Number: CBM321609U260T; Package Size: 1206; JLCPCB Basic Part: No; JLCPCB Part Number: C391199; Supplier 1: LCSC; Category: Ferrite Beads; Supplier Part Number 1: C391199; Tolerance: ±25%; Rated Current: 6A; DC Resistance: 15mΩ; RoHS: Yes; ComponentLink1Description: Datasheet; ComponentLink1URL: https://wmsc.lcsc.com/wmsc/upload/file/pdf/v2/lcsc/2304140030_FH--Guangdong-Fenghua-Advanced-Tech-CBM321609U260T_C391199.pdf; ComponentLink2Description: JLCPCB Part URL; ComponentLink2URL: https://jlcpcb.com/partdetail/C391199; ComponentLink3Description: LCSC Part URL; ComponentLink3URL: https://lcsc.com/product-detail/Ferrite-Beads_FH-Guangdong-Fenghua-Advanced-Tech-FH-Guangdong-Fenghua-Advanced-Tech-CBM321609U260T_C391199.html
footprint FB-1206 (1206 (3216M) Ferrite)
pins: 1, 2

## CBM321609U300T
designator FB?  Impedance @ Frequency: 30Ω@100MHz
Ferrite, 30Ω@100MHz, ±25%, 15mΩ, 6A, SMD 1206; Manufacturer: FH(Guangdong Fenghua Advanced Tech); Manufacturer Part Number: CBM321609U300T; Package Size: 1206; JLCPCB Basic Part: No; JLCPCB Part Number: C185919; Supplier 1: LCSC; Category: Ferrite Beads; Supplier Part Number 1: C185919; Tolerance: ±25%; Rated Current: 6A; DC Resistance: 15mΩ; RoHS: Yes; ComponentLink1Description: Datasheet; ComponentLink1URL: https://wmsc.lcsc.com/wmsc/upload/file/pdf/v2/lcsc/1810311125_FH--Guangdong-Fenghua-Advanced-Tech-CBM321609U300T_C185919.pdf; ComponentLink2Description: JLCPCB Part URL; ComponentLink2URL: https://jlcpcb.com/partdetail/C185919; ComponentLink3Description: LCSC Part URL; ComponentLink3URL: https://lcsc.com/product-detail/Ferrite-Beads_FH-Guangdong-Fenghua-Advanced-Tech-FH-Guangdong-Fenghua-Advanced-Tech-CBM321609U300T_C185919.html
footprint FB-1206 (1206 (3216M) Ferrite)
pins: 1, 2

## CBM321609U301T
designator FB?  Impedance @ Frequency: 300Ω@100MHz
Ferrite, 300Ω@100MHz, ±25%, 65mΩ, 2.5A, SMD 1206; Manufacturer: FH(Guangdong Fenghua Advanced Tech); Manufacturer Part Number: CBM321609U301T; Package Size: 1206; JLCPCB Basic Part: No; JLCPCB Part Number: C74490; Supplier 1: LCSC; Category: Ferrite Beads; Supplier Part Number 1: C74490; Tolerance: ±25%; Rated Current: 2.5A; DC Resistance: 65mΩ; RoHS: Yes; ComponentLink1Description: Datasheet; ComponentLink1URL: https://wmsc.lcsc.com/wmsc/upload/file/pdf/v2/lcsc/2304140030_FH--Guangdong-Fenghua-Advanced-Tech-CBM321609U301T_C74490.pdf; ComponentLink2Description: JLCPCB Part URL; ComponentLink2URL: https://jlcpcb.com/partdetail/C74490; ComponentLink3Description: LCSC Part URL; ComponentLink3URL: https://lcsc.com/product-detail/Ferrite-Beads_FH-Guangdong-Fenghua-Advanced-Tech-FH-Guangdong-Fenghua-Advanced-Tech-CBM321609U301T_C74490.html
footprint FB-1206 (1206 (3216M) Ferrite)
pins: 1, 2

## CBM321609U310T
designator FB?  Impedance @ Frequency: 31Ω@100MHz
Ferrite, 31Ω@100MHz, ±25%, 25mΩ, 4A, SMD 1206; Manufacturer: FH(Guangdong Fenghua Advanced Tech); Manufacturer Part Number: CBM321609U310T; Package Size: 1206; JLCPCB Basic Part: No; JLCPCB Part Number: C391197; Supplier 1: LCSC; Category: Ferrite Beads; Supplier Part Number 1: C391197; Tolerance: ±25%; Rated Current: 4A; DC Resistance: 25mΩ; RoHS: Yes; ComponentLink1Description: Datasheet; ComponentLink1URL: https://wmsc.lcsc.com/wmsc/upload/file/pdf/v2/lcsc/2304140030_FH--Guangdong-Fenghua-Advanced-Tech-CBM321609U310T_C391197.pdf; ComponentLink2Description: JLCPCB Part URL; ComponentLink2URL: https://jlcpcb.com/partdetail/C391197; ComponentLink3Description: LCSC Part URL; ComponentLink3URL: https://lcsc.com/product-detail/Ferrite-Beads_FH-Guangdong-Fenghua-Advanced-Tech-FH-Guangdong-Fenghua-Advanced-Tech-CBM321609U310T_C391197.html
footprint FB-1206 (1206 (3216M) Ferrite)
pins: 1, 2

## CBM321609U391T
designator FB?  Impedance @ Frequency: 390Ω@100MHz
Ferrite, 390Ω@100MHz, ±25%, SMD 1206; Manufacturer: FH(Guangdong Fenghua Advanced Tech); Manufacturer Part Number: CBM321609U391T; Package Size: 1206; JLCPCB Basic Part: No; JLCPCB Part Number: C391191; Supplier 1: LCSC; Category: Ferrite Beads; Supplier Part Number 1: C391191; Tolerance: ±25%; RoHS: Yes; ComponentLink1Description: Datasheet; ComponentLink1URL: https://wmsc.lcsc.com/wmsc/upload/file/pdf/v2/lcsc/2304140030_FH--Guangdong-Fenghua-Advanced-Tech-CBM321609U391T_C391191.pdf; ComponentLink2Description: JLCPCB Part URL; ComponentLink2URL: https://jlcpcb.com/partdetail/C391191; ComponentLink3Description: LCSC Part URL; ComponentLink3URL: https://lcsc.com/product-detail/Ferrite-Beads_FH-Guangdong-Fenghua-Advanced-Tech-FH-Guangdong-Fenghua-Advanced-Tech-CBM321609U391T_C391191.html
pins: 1, 2

## CBM321609U500T
designator FB?  Impedance @ Frequency: 50Ω@100MHz
Ferrite, 50Ω@100MHz, ±25%, 25mΩ, 4A, SMD 1206; Manufacturer: FH(Guangdong Fenghua Advanced Tech); Manufacturer Part Number: CBM321609U500T; Package Size: 1206; JLCPCB Basic Part: No; JLCPCB Part Number: C391196; Supplier 1: LCSC; Category: Ferrite Beads; Supplier Part Number 1: C391196; Tolerance: ±25%; Rated Current: 4A; DC Resistance: 25mΩ; RoHS: Yes; ComponentLink1Description: Datasheet; ComponentLink1URL: https://wmsc.lcsc.com/wmsc/upload/file/pdf/v2/lcsc/2304140030_FH--Guangdong-Fenghua-Advanced-Tech-CBM321609U500T_C391196.pdf; ComponentLink2Description: JLCPCB Part URL; ComponentLink2URL: https://jlcpcb.com/partdetail/C391196; ComponentLink3Description: LCSC Part URL; ComponentLink3URL: https://lcsc.com/product-detail/Ferrite-Beads_FH-Guangdong-Fenghua-Advanced-Tech-FH-Guangdong-Fenghua-Advanced-Tech-CBM321609U500T_C391196.html
footprint FB-1206 (1206 (3216M) Ferrite)
pins: 1, 2

## CBM321609U501T
designator FB?  Impedance @ Frequency: 500Ω@100MHz
Ferrite, 500Ω@100MHz, ±25%, 85mΩ, 2A, SMD 1206; Manufacturer: FH(Guangdong Fenghua Advanced Tech); Manufacturer Part Number: CBM321609U501T; Package Size: 1206; JLCPCB Basic Part: No; JLCPCB Part Number: C391190; Supplier 1: LCSC; Category: Ferrite Beads; Supplier Part Number 1: C391190; Tolerance: ±25%; Rated Current: 2A; DC Resistance: 85mΩ; RoHS: Yes; ComponentLink1Description: Datasheet; ComponentLink1URL: https://wmsc.lcsc.com/wmsc/upload/file/pdf/v2/lcsc/2304140030_FH--Guangdong-Fenghua-Advanced-Tech-CBM321609U501T_C391190.pdf; ComponentLink2Description: JLCPCB Part URL; ComponentLink2URL: https://jlcpcb.com/partdetail/C391190; ComponentLink3Description: LCSC Part URL; ComponentLink3URL: https://lcsc.com/product-detail/Ferrite-Beads_FH-Guangdong-Fenghua-Advanced-Tech-FH-Guangdong-Fenghua-Advanced-Tech-CBM321609U501T_C391190.html
footprint FB-1206 (1206 (3216M) Ferrite)
pins: 1, 2

## CBM321609U600T
designator FB?  Impedance @ Frequency: 60Ω@100MHz
Ferrite, 60Ω@100MHz, ±25%, 25mΩ, 4A, SMD 1206; Manufacturer: FH(Guangdong Fenghua Advanced Tech); Manufacturer Part Number: CBM321609U600T; Package Size: 1206; JLCPCB Basic Part: No; JLCPCB Part Number: C74489; Supplier 1: LCSC; Category: Ferrite Beads; Supplier Part Number 1: C74489; Tolerance: ±25%; Rated Current: 4A; DC Resistance: 25mΩ; RoHS: Yes; ComponentLink1Description: Datasheet; ComponentLink1URL: https://wmsc.lcsc.com/wmsc/upload/file/pdf/v2/lcsc/2304140030_FH--Guangdong-Fenghua-Advanced-Tech-CBM321609U600T_C74489.pdf; ComponentLink2Description: JLCPCB Part URL; ComponentLink2URL: https://jlcpcb.com/partdetail/C74489; ComponentLink3Description: LCSC Part URL; ComponentLink3URL: https://lcsc.com/product-detail/Ferrite-Beads_FH-Guangdong-Fenghua-Advanced-Tech-FH-Guangdong-Fenghua-Advanced-Tech-CBM321609U600T_C74489.html
footprint FB-1206 (1206 (3216M) Ferrite)
pins: 1, 2

## CBM321609U601T
designator FB?  Impedance @ Frequency: 600Ω@100MHz
Ferrite, 600Ω@100MHz, ±25%, 100mΩ, 2A, SMD 1206; Manufacturer: FH(Guangdong Fenghua Advanced Tech); Manufacturer Part Number: CBM321609U601T; Package Size: 1206; JLCPCB Basic Part: No; JLCPCB Part Number: C139170; Supplier 1: LCSC; Category: Ferrite Beads; Supplier Part Number 1: C139170; Tolerance: ±25%; Rated Current: 2A; DC Resistance: 100mΩ; RoHS: Yes; ComponentLink1Description: Datasheet; ComponentLink1URL: https://wmsc.lcsc.com/wmsc/upload/file/pdf/v2/lcsc/2304140030_FH--Guangdong-Fenghua-Advanced-Tech-CBM321609U601T_C139170.pdf; ComponentLink2Description: JLCPCB Part URL; ComponentLink2URL: https://jlcpcb.com/partdetail/C139170; ComponentLink3Description: LCSC Part URL; ComponentLink3URL: https://lcsc.com/product-detail/Ferrite-Beads_FH-Guangdong-Fenghua-Advanced-Tech-FH-Guangdong-Fenghua-Advanced-Tech-CBM321609U601T_C139170.html
footprint FB-1206 (1206 (3216M) Ferrite)
pins: 1, 2

## CBM321609U800T
designator FB?  Impedance @ Frequency: 80Ω@100MHz
Ferrite, 80Ω@100MHz, ±25%, 35mΩ, 4A, SMD 1206; Manufacturer: FH(Guangdong Fenghua Advanced Tech); Manufacturer Part Number: CBM321609U800T; Package Size: 1206; JLCPCB Basic Part: No; JLCPCB Part Number: C391194; Supplier 1: LCSC; Category: Ferrite Beads; Supplier Part Number 1: C391194; Tolerance: ±25%; Rated Current: 4A; DC Resistance: 35mΩ; RoHS: Yes; ComponentLink1Description: Datasheet; ComponentLink1URL: https://wmsc.lcsc.com/wmsc/upload/file/pdf/v2/lcsc/2304140030_FH--Guangdong-Fenghua-Advanced-Tech-CBM321609U800T_C391194.pdf; ComponentLink2Description: JLCPCB Part URL; ComponentLink2URL: https://jlcpcb.com/partdetail/C391194; ComponentLink3Description: LCSC Part URL; ComponentLink3URL: https://lcsc.com/product-detail/Ferrite-Beads_FH-Guangdong-Fenghua-Advanced-Tech-FH-Guangdong-Fenghua-Advanced-Tech-CBM321609U800T_C391194.html
footprint FB-1206 (1206 (3216M) Ferrite)
pins: 1, 2

## CBM321611U101T
designator FB?  Impedance @ Frequency: 100Ω@100MHz
Ferrite, 100Ω@100MHz, SMD 1206; Manufacturer: FH (Guangdong Fenghua Advanced Tech); Manufacturer Part Number: CBM321611U101T; Package Size: 1206; JLCPCB Basic Part: No; JLCPCB Part Number: C394446; Supplier 1: LCSC; Category: Ferrite Beads; Supplier Part Number 1: C394446; RoHS: Yes; ComponentLink1Description: Datasheet; ComponentLink2Description: JLCPCB Part URL; ComponentLink2URL: https://jlcpcb.com/partdetail/C394446; ComponentLink3Description: LCSC Part URL; ComponentLink3URL: https://lcsc.com/product-detail/Ferrite-Beads_FH-Guangdong-Fenghua-Advanced-Tech-FH-Guangdong-Fenghua-Advanced-Tech-CBM321611U101T_C394446.html
pins: 1, 2

## CBM321611U121T
designator FB?  Impedance @ Frequency: 120Ω@100MHz
Ferrite, 120Ω@100MHz, SMD 1206; Manufacturer: FH(Guangdong Fenghua Advanced Tech); Manufacturer Part Number: CBM321611U121T; Package Size: 1206; JLCPCB Basic Part: No; JLCPCB Part Number: C394447; Supplier 1: LCSC; Category: Ferrite Beads; Supplier Part Number 1: C394447; RoHS: Yes; ComponentLink1Description: Datasheet; ComponentLink2Description: JLCPCB Part URL; ComponentLink2URL: https://jlcpcb.com/partdetail/C394447; ComponentLink3Description: LCSC Part URL; ComponentLink3URL: https://lcsc.com/product-detail/Ferrite-Beads_FH-Guangdong-Fenghua-Advanced-Tech-FH-Guangdong-Fenghua-Advanced-Tech-CBM321611U121T_C394447.html
pins: 1, 2

## CBM321611U221T
designator FB?  Impedance @ Frequency: 220Ω@100MHz
Ferrite, 220Ω@100MHz, ±25%, SMD 1206; Manufacturer: FH(Guangdong Fenghua Advanced Tech); Manufacturer Part Number: CBM321611U221T; Package Size: 1206; JLCPCB Basic Part: No; JLCPCB Part Number: C394448; Supplier 1: LCSC; Category: Ferrite Beads; Supplier Part Number 1: C394448; Tolerance: ±25%; RoHS: Yes; ComponentLink1Description: Datasheet; ComponentLink1URL: https://wmsc.lcsc.com/wmsc/upload/file/pdf/v2/lcsc/2304140030_FH--Guangdong-Fenghua-Advanced-Tech-CBM321611U221T_C394448.pdf; ComponentLink2Description: JLCPCB Part URL; ComponentLink2URL: https://jlcpcb.com/partdetail/C394448; ComponentLink3Description: LCSC Part URL; ComponentLink3URL: https://lcsc.com/product-detail/Ferrite-Beads_FH-Guangdong-Fenghua-Advanced-Tech-FH-Guangdong-Fenghua-Advanced-Tech-CBM321611U221T_C394448.html
pins: 1, 2

## CBM321611U300T
designator FB?  Impedance @ Frequency: 30Ω@100MHz
Ferrite, 30Ω@100MHz, ±25%, SMD 1206; Manufacturer: FH(Guangdong Fenghua Advanced Tech); Manufacturer Part Number: CBM321611U300T; Package Size: 1206; JLCPCB Basic Part: No; JLCPCB Part Number: C394449; Supplier 1: LCSC; Category: Ferrite Beads; Supplier Part Number 1: C394449; Tolerance: ±25%; RoHS: Yes; ComponentLink1Description: Datasheet; ComponentLink1URL: https://wmsc.lcsc.com/wmsc/upload/file/pdf/v2/lcsc/2304140030_FH--Guangdong-Fenghua-Advanced-Tech-CBM321611U300T_C394449.pdf; ComponentLink2Description: JLCPCB Part URL; ComponentLink2URL: https://jlcpcb.com/partdetail/C394449; ComponentLink3Description: LCSC Part URL; ComponentLink3URL: https://lcsc.com/product-detail/Ferrite-Beads_FH-Guangdong-Fenghua-Advanced-Tech-FH-Guangdong-Fenghua-Advanced-Tech-CBM321611U300T_C394449.html
pins: 1, 2

## CBM321611U391T
designator FB?  Impedance @ Frequency: 390Ω@100MHz
Ferrite, 390Ω@100MHz, SMD 1206; Manufacturer: FH (Guangdong Fenghua Advanced Tech); Manufacturer Part Number: CBM321611U391T; Package Size: 1206; JLCPCB Basic Part: No; JLCPCB Part Number: C394450; Supplier 1: LCSC; Category: Ferrite Beads; Supplier Part Number 1: C394450; RoHS: Yes; ComponentLink1Description: Datasheet; ComponentLink2Description: JLCPCB Part URL; ComponentLink2URL: https://jlcpcb.com/partdetail/C394450; ComponentLink3Description: LCSC Part URL; ComponentLink3URL: https://lcsc.com/product-detail/Ferrite-Beads_FH-Guangdong-Fenghua-Advanced-Tech-FH-Guangdong-Fenghua-Advanced-Tech-CBM321611U391T_C394450.html
pins: 1, 2